# EAGLE library part 691322310008 (library SW_Connectors)
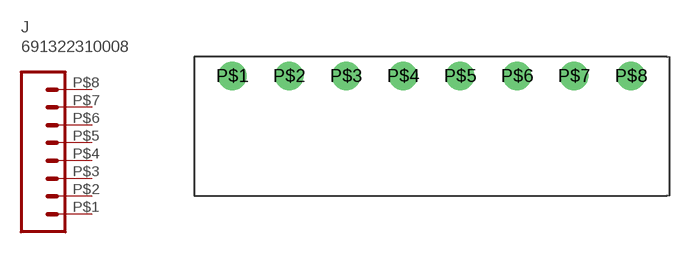
[diagram p3: symbol with the pads of 691322310008; footprint 691322310008]

Designator prefix J

## 691322310008 (CATEGORY: Connector; PACKAGE: 8-POS)  [691322310008]
P$1  1  pas
P$2  2  pas
P$3  3  pas
P$4  4  pas
P$5  5  pas
P$6  6  pas
P$7  7  pas
P$8  8  pas

## Footprint 691322310008 (pad centres in mm)
drill 1.05 pad 1.93: P$1 0,0; P$2 3.81,0; P$3 7.62,0; P$4 11.43,0; P$5 15.24,0; P$6 19.05,0; P$7 22.86,0; P$8 26.67,0